# Altium schematic symbol library diode_array.SchLib: 14 symbols
Pins are listed as number, name and electrical type; pins without a type are passive.

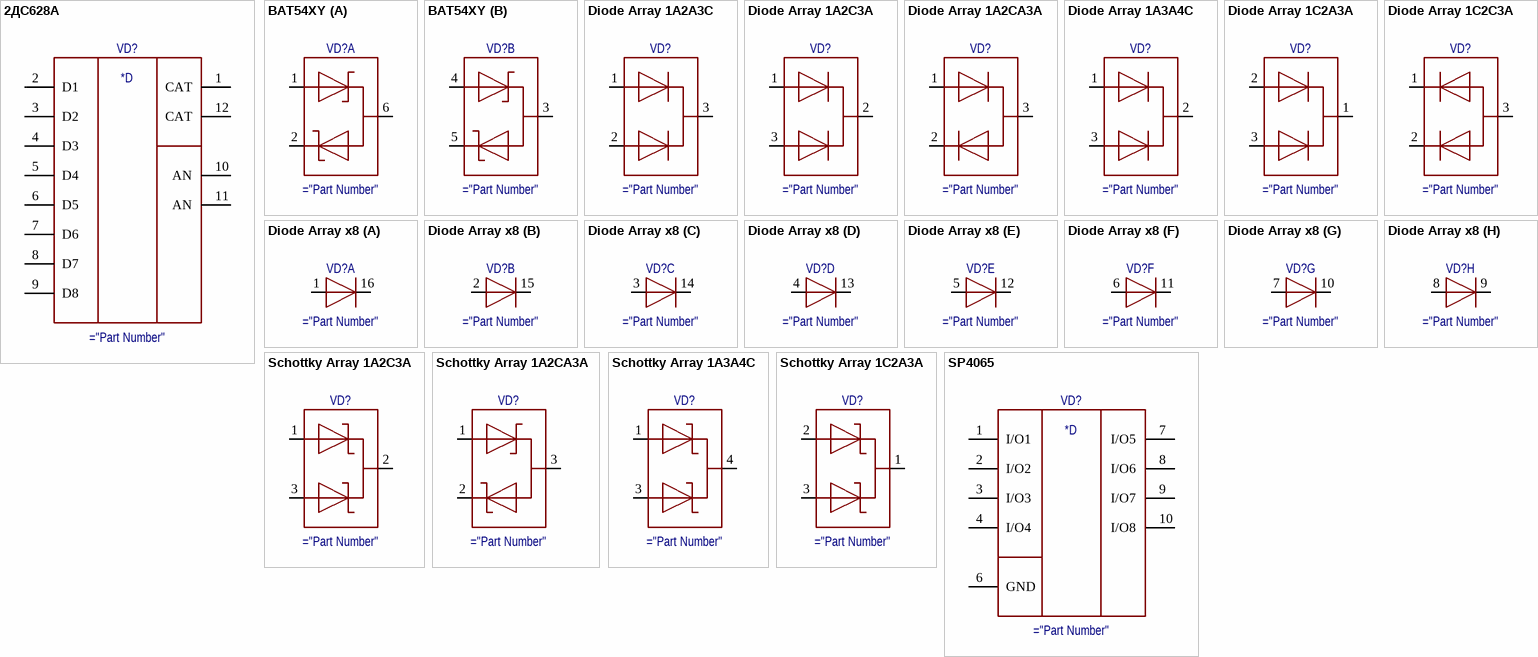
[diagram p0: symbols 2ДС628А to SP4065]

## 2ДС628А
designator VD?
Диодная матрица
pins: 1 CAT, 2 D1, 3 D2, 4 D3, 5 D4, 6 D5, 7 D6, 8 D7, 9 D8, 10 AN, 11 AN, 12 CAT
text: *D

## BAT54XY
designator VD?
Диодная сборка
part A pins: 1 A1, 2 C2, 6 C1/A2
part B pins: 3 C4/A3, 4 A4, 5 C3

## Diode Array 1A2A3C
designator VD?
Диодная сборка
pins: 1 Anode, 2 Anode, 3 Cathode

## Diode Array 1A2C3A
designator VD?
Диодная сборка
pins: 1 Anode, 2 Cathode, 3 Anode

## Diode Array 1A2CA3A
designator VD?
Диодная сборка
pins: 1 A1, 2 C2, 3 C1/A2

## Diode Array 1A3A4С
designator VD?
Диодная сборка
pins: 1 Anode, 2 Cathode, 3 Anode

## Diode Array 1C2A3A
designator VD?
Диодная сборка
pins: 1 Cathode, 2 Anode, 3 Anode

## Diode Array 1C2C3A
designator VD?
Диодная сборка
pins: 1 Anode, 2 Anode, 3 Cathode

## Diode Array x8
designator VD?
Диодная сборка
part A pins: 1 Anode, 16 Cathode
part B pins: 2 Anode, 15 Cathode
part C pins: 3 Anode, 14 Cathode
part D pins: 4 Anode, 13 Cathode
part E pins: 5 Anode, 12 Cathode
part F pins: 6 Anode, 11 Cathode
part G pins: 7 Anode, 10 Cathode
part H pins: 8 Anode, 9 Cathode

## Schottky Array 1A2C3A
designator VD?
pins: 1 Anode, 2 Cathode, 3 Anode

## Schottky Array 1A2CA3A
designator VD?
pins: 1 A1, 2 C2, 3 C1/A2

## Schottky Array 1A3A4C
designator VD?
pins: 1 Anode, 3 Anode, 4 Cathode

## Schottky Array 1C2A3A
designator VD?
pins: 1 Cathode, 2 Anode, 3 Anode

## SP4065
designator VD?
TVS-diode array
pins: 1 I/O1, 2 I/O2, 3 I/O3, 4 I/O4, 6 GND, 7 I/O5, 8 I/O6, 9 I/O7, 10 I/O8
text: *D